# EAGLE library part ARDUINO_MICRO_REV03J (library BOBs)
Arduino Micro with Headers - 5V 16MHz
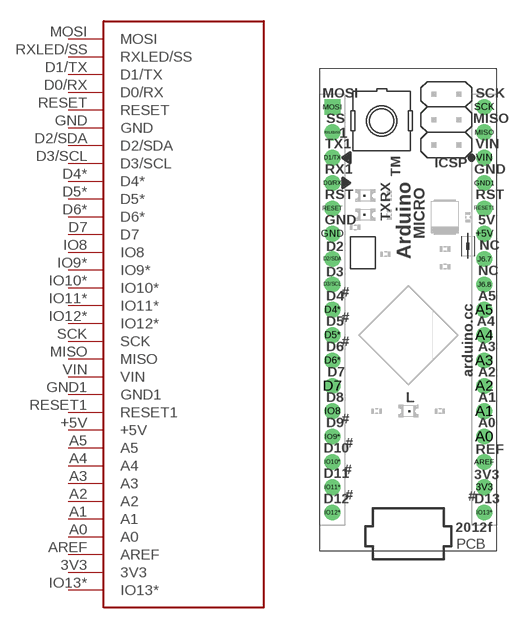
[diagram p8: symbol with the pads of ARDUINO_MICRO_REV03J; footprint ARDUINO_MICRO_REV03J]

Designator prefix -

## ARDUINO_MICRO_REV03J-BOB (DIST: Adafruit; DISTPN: 1086)  [ARDUINO_MICRO_REV03J]
3V3  3V3
+5V  +5V
A0  A0
A1  A1
A2  A2
A3  A3
A4  A4
A5  A5
AREF  AREF
D0/RX  D0/RX
D1/TX  D1/TX
D2/SDA  D2/SDA
D3/SCL  D3/SCL
D4*  D4*
D5*  D5*
D6*  D6*
D7  D7
GND  GND
GND1  GND1
IO8  IO8
IO9*  IO9*
IO10*  IO10*
IO11*  IO11*
IO12*  IO12*
IO13*  IO13*
MISO  MISO
MOSI  MOSI
RESET  RESET
RESET1  RESET1
RXLED/SS  RXLED/SS
SCK  SCK
VIN  VIN

## Footprint ARDUINO_MICRO_REV03J (pad centres in mm)
drill 0.914 pad 1.575: 3V3 16.51,6.35; +5V 16.51,31.75; A0 16.51,11.43; A1 16.51,13.97; A2 16.51,16.51; A3 16.51,19.05; A4 16.51,21.59; A5 16.51,24.13; AREF 16.51,8.89; D0/RX 1.27,36.83; D1/TX 1.27,39.37; D2/SDA 1.27,29.21; D3/SCL 1.27,26.67; D4* 1.27,24.13; D5* 1.27,21.59; D6* 1.27,19.05; D7 1.27,16.51; GND 1.27,31.75; GND1 16.51,36.83; IO8 1.27,13.97; IO9* 1.27,11.43; IO10* 1.27,8.89; IO11* 1.27,6.35; IO12* 1.27,3.81; IO13* 16.51,3.81; J6.7 16.51,29.21; J6.8 16.51,26.67; MISO 16.51,41.91; RESET 1.27,34.29; RESET1 16.51,34.29; RXLED/SS 1.27,41.91; SCK 16.51,44.45; VIN 16.51,39.37
drill 0.914 pad 1.575 square: MOSI 1.27,44.45